# EAGLE library part XC7Z010CLG400 (library Xilinx)
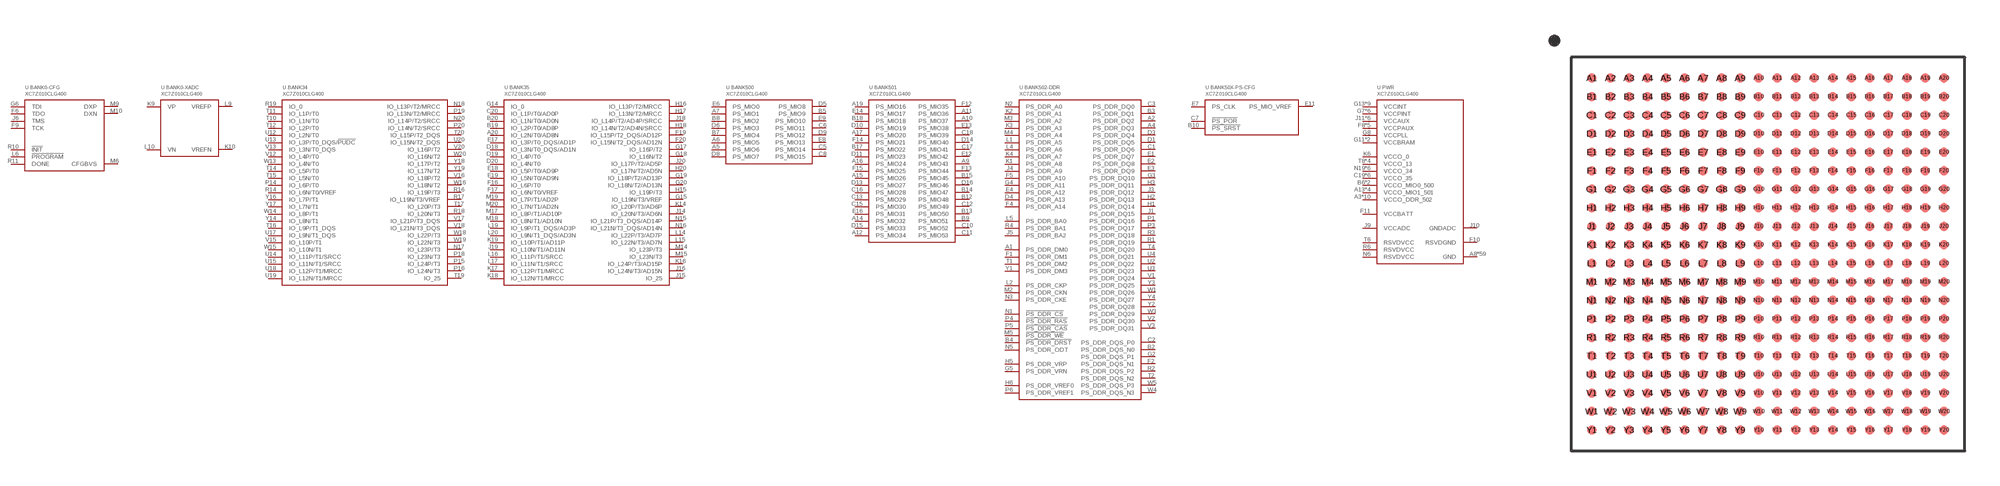
[diagram p0: symbol with the pads of BGA400; footprint BGA400]

Designator prefix U; gates .BANK0-CFG=XC7Z010CLG400-BANK0-CFG .BANK0-XADC=XC7Z010CLG400-BANK0-XADC .BANK34=XC7Z010CLG400-BANK34 .BANK35=XC7Z010CLG400-BANK35 .BANK500=XC7Z010CLG400-BANK500 .BANK501=XC7Z010CLG400-BANK501 .BANK502-DDR=XC7Z010CLG400-BANK502-DDR .BANK50X-PS-CFG=XC7Z010CLG400-BANK50X-PS-CFG .PWR=XC7Z010CLG400-PWR

## XC7Z010CLG400  [BGA400]
A1  .BANK502-DDR:PS_DDR_DM0
A2  .BANK502-DDR:PS_DDR_DQ2
A3  .PWR:VCCO_DDR_502
A4  .BANK502-DDR:PS_DDR_DQ3
A5  .BANK500:PS_MIO6
A6  .BANK500:PS_MIO5
A7  .BANK500:PS_MIO1
A8  .PWR:GND
A9  .BANK501:PS_MIO43
A10  .BANK501:PS_MIO37
A11  .BANK501:PS_MIO36
A12  .BANK501:PS_MIO34
A13  .PWR:VCCO_MIO1_501
A14  .BANK501:PS_MIO32
A15  .BANK501:PS_MIO26
A16  .BANK501:PS_MIO24
A17  .BANK501:PS_MIO20
A18  .PWR:GND
A19  .BANK501:PS_MIO16
A20  .BANK35:IO_L2N/T0/AD8N
B1  .PWR:GND
B2  .BANK502-DDR:PS_DDR_DQS_N0
B3  .BANK502-DDR:PS_DDR_DQ1
B4  .BANK502-DDR:!PS_DDR_DRST
B5  .BANK500:PS_MIO9
B6  .PWR:VCCO_MIO0_500
B7  .BANK500:PS_MIO4
B8  .BANK500:PS_MIO2
B9  .BANK501:PS_MIO51
B10  .BANK50X-PS-CFG:!PS_SRST
B11  .PWR:GND
B12  .BANK501:PS_MIO48
B13  .BANK501:PS_MIO50
B14  .BANK501:PS_MIO47
B15  .BANK501:PS_MIO45
B16  .PWR:VCCO_MIO1_501
B17  .BANK501:PS_MIO22
B18  .BANK501:PS_MIO18
B19  .BANK35:IO_L2P/T0/AD8P
B20  .BANK35:IO_L1N/T0/AD0N
C1  .BANK502-DDR:PS_DDR_DQ6
C2  .BANK502-DDR:PS_DDR_DQS_P0
C3  .BANK502-DDR:PS_DDR_DQ0
C4  .PWR:GND
C5  .BANK500:PS_MIO14
C6  .BANK500:PS_MIO11
C7  .BANK50X-PS-CFG:!PS_POR
C8  .BANK500:PS_MIO15
C9  .PWR:GND
C10  .BANK501:PS_MIO52
C11  .BANK501:PS_MIO53
C12  .BANK501:PS_MIO49
C13  .BANK501:PS_MIO29
C14  .PWR:GND
C15  .BANK501:PS_MIO30
C16  .BANK501:PS_MIO28
C17  .BANK501:PS_MIO41
C18  .BANK501:PS_MIO39
C19  .PWR:VCCO_35
C20  .BANK35:IO_L1P/T0/AD0P
D1  .BANK502-DDR:PS_DDR_DQ5
D2  .PWR:VCCO_DDR_502
D3  .BANK502-DDR:PS_DDR_DQ4
D4  .BANK502-DDR:PS_DDR_A13
D5  .BANK500:PS_MIO8
D6  .BANK500:PS_MIO3
D7  .PWR:VCCO_MIO0_500
D8  .BANK500:PS_MIO7
D9  .BANK500:PS_MIO12
D10  .BANK501:PS_MIO19
D11  .BANK501:PS_MIO23
D12  .PWR:VCCO_MIO1_501
D13  .BANK501:PS_MIO27
D14  .BANK501:PS_MIO40
D15  .BANK501:PS_MIO33
D16  .BANK501:PS_MIO46
D17  .PWR:GND
D18  .BANK35:IO_L3N/T0_DQS/AD1N
D19  .BANK35:IO_L4P/T0
D20  .BANK35:IO_L4N/T0
E1  .BANK502-DDR:PS_DDR_DQ7
E2  .BANK502-DDR:PS_DDR_DQ8
E3  .BANK502-DDR:PS_DDR_DQ9
E4  .BANK502-DDR:PS_DDR_A12
E5  .PWR:VCCO_DDR_502
E6  .BANK500:PS_MIO0
E7  .BANK50X-PS-CFG:PS_CLK
E8  .BANK500:PS_MIO13
E9  .BANK500:PS_MIO10
E10  .PWR:GND
E11  .BANK50X-PS-CFG:PS_MIO_VREF
E12  .BANK501:PS_MIO42
E13  .BANK501:PS_MIO38
E14  .BANK501:PS_MIO17
E15  .PWR:VCCO_MIO1_501
E16  .BANK501:PS_MIO31
E17  .BANK35:IO_L3P/T0_DQS/AD1P
E18  .BANK35:IO_L5P/T0/AD9P
E19  .BANK35:IO_L5N/T0/AD9N
E20  .PWR:GND
F1  .BANK502-DDR:PS_DDR_DM1
F2  .BANK502-DDR:PS_DDR_DQS_N1
F3  .PWR:GND
F4  .BANK502-DDR:PS_DDR_A14
F5  .BANK502-DDR:PS_DDR_A10
F6  .BANK0-CFG:TDO
F7  .PWR:GND
F8  .PWR:VCCPAUX
F9  .BANK0-CFG:TCK
F10  .PWR:RSVDGND
F11  .PWR:VCCBATT
F12  .BANK501:PS_MIO35
F13  .BANK501:PS_MIO44
F14  .BANK501:PS_MIO21
F15  .BANK501:PS_MIO25
F16  .BANK35:IO_L6P/T0
F17  .BANK35:IO_L6N/T0/VREF
F18  .PWR:VCCO_35
F19  .BANK35:IO_L15P/T2_DQS/AD12P
F20  .BANK35:IO_L15N/T2_DQS/AD12N
G1  .PWR:VCCO_DDR_502
G2  .BANK502-DDR:PS_DDR_DQS_P1
G3  .BANK502-DDR:PS_DDR_DQ10
G4  .BANK502-DDR:PS_DDR_A11
G5  .BANK502-DDR:PS_DDR_VRN
G6  .BANK0-CFG:TDI
G7  .PWR:VCCPINT
G8  .PWR:VCCPLL
G9  .PWR:VCCPAUX
G10  .PWR:GND
G11  .PWR:VCCBRAM
G12  .PWR:GND
G13  .PWR:VCCINT
G14  .BANK35:IO_0
G15  .BANK35:IO_L19N/T3/VREF
G16  .PWR:GND
G17  .BANK35:IO_L16P/T2
G18  .BANK35:IO_L16N/T2
G19  .BANK35:IO_L18P/T2/AD13P
G20  .BANK35:IO_L18N/T2/AD13N
H1  .BANK502-DDR:PS_DDR_DQ14
H2  .BANK502-DDR:PS_DDR_DQ13
H3  .BANK502-DDR:PS_DDR_DQ11
H4  .PWR:VCCO_DDR_502
H5  .BANK502-DDR:PS_DDR_VRP
H6  .BANK502-DDR:PS_DDR_VREF0
H7  .PWR:GND
H8  .PWR:VCCPAUX
H9  .PWR:GND
H10  .PWR:VCCBRAM
H11  .PWR:GND
H12  .PWR:VCCINT
H13  .PWR:GND
H14  .PWR:VCCO_35
H15  .BANK35:IO_L19P/T3
H16  .BANK35:IO_L13P/T2/MRCC
H17  .BANK35:IO_L13N/T2/MRCC
H18  .BANK35:IO_L14N/T2/AD4N/SRCC
H19  .PWR:GND
H20  .BANK35:IO_L17N/T2/AD5N
J1  .BANK502-DDR:PS_DDR_DQ15
J2  .PWR:GND
J3  .BANK502-DDR:PS_DDR_DQ12
J4  .BANK502-DDR:PS_DDR_A9
J5  .BANK502-DDR:PS_DDR_BA2
J6  .BANK0-CFG:TMS
J7  .PWR:VCCPINT
J8  .PWR:GND
J9  .PWR:VCCADC
J10  .PWR:GNDADC
J11  .PWR:VCCAUX
J12  .PWR:GND
J13  .PWR:VCCINT
J14  .BANK35:IO_L20N/T3/AD6N
J15  .BANK35:IO_25
J16  .BANK35:IO_L24N/T3/AD15N
J17  .PWR:VCCO_35
J18  .BANK35:IO_L14P/T2/AD4P/SRCC
J19  .BANK35:IO_L10N/T1/AD11N
J20  .BANK35:IO_L17P/T2/AD5P
K1  .BANK502-DDR:PS_DDR_A8
K2  .BANK502-DDR:PS_DDR_A1
K3  .BANK502-DDR:PS_DDR_A3
K4  .BANK502-DDR:PS_DDR_A7
K5  .PWR:GND
K6  .PWR:VCCO_0
K7  .PWR:GND
K8  .PWR:VCCPAUX
K9  .BANK0-XADC:VP
K10  .BANK0-XADC:VREFN
K11  .PWR:GND
K12  .PWR:VCCINT
K13  .PWR:GND
K14  .BANK35:IO_L20P/T3/AD6P
K15  .PWR:GND
K16  .BANK35:IO_L24P/T3/AD15P
K17  .BANK35:IO_L12P/T1/MRCC
K18  .BANK35:IO_L12N/T1/MRCC
K19  .BANK35:IO_L10P/T1/AD11P
K20  .PWR:VCCO_35
L1  .BANK502-DDR:PS_DDR_A5
L2  .BANK502-DDR:PS_DDR_CKP
L3  .PWR:VCCO_DDR_502
L4  .BANK502-DDR:PS_DDR_A6
L5  .BANK502-DDR:PS_DDR_BA0
L6  .BANK0-CFG:!PROGRAM
L7  .PWR:VCCPINT
L8  .PWR:GND
L9  .BANK0-XADC:VREFP
L10  .BANK0-XADC:VN
L11  .PWR:VCCAUX
L12  .PWR:GND
L13  .PWR:VCCINT
L14  .BANK35:IO_L22P/T3/AD7P
L15  .BANK35:IO_L22N/T3/AD7N
L16  .BANK35:IO_L11P/T1/SRCC
L17  .BANK35:IO_L11N/T1/SRCC
L18  .PWR:GND
L19  .BANK35:IO_L9P/T1_DQS/AD3P
L20  .BANK35:IO_L9N/T1_DQS/AD3N
M1  .PWR:GND
M2  .BANK502-DDR:PS_DDR_CKN
M3  .BANK502-DDR:PS_DDR_A2
M4  .BANK502-DDR:PS_DDR_A4
M5  .BANK502-DDR:!PS_DDR_WE
M6  .BANK0-CFG:CFGBVS
M7  .PWR:GND
M8  .PWR:VCCPAUX
M9  .BANK0-CFG:DXP
M10  .BANK0-CFG:DXN
M11  .PWR:GND
M12  .PWR:VCCINT
M13  .PWR:GND
M14  .BANK35:IO_L23P/T3
M15  .BANK35:IO_L23N/T3
M16  .PWR:VCCO_35
M17  .BANK35:IO_L8P/T1/AD10P
M18  .BANK35:IO_L8N/T1/AD10N
M19  .BANK35:IO_L7P/T1/AD2P
M20  .BANK35:IO_L7N/T1/AD2N
N1  .BANK502-DDR:!PS_DDR_CS
N2  .BANK502-DDR:PS_DDR_A0
N3  .BANK502-DDR:PS_DDR_CKE
N4  .PWR:GND
N5  .BANK502-DDR:PS_DDR_ODT
N6  .PWR:RSVDVCC
N7  .PWR:VCCPINT
N8  .PWR:GND
N9  .PWR:VCCAUX
N10  .PWR:GND
N11  .PWR:VCCAUX
N12  .PWR:GND
N13  .PWR:VCCINT
N14  .PWR:GND
N15  .BANK35:IO_L21P/T3_DQS/AD14P
N16  .BANK35:IO_L21N/T3_DQS/AD14N
N17  .BANK34:IO_L23P/T3
N18  .BANK34:IO_L13P/T2/MRCC
N19  .PWR:VCCO_34
N20  .BANK34:IO_L14P/T2/SRCC
P1  .BANK502-DDR:PS_DDR_DQ16
P2  .PWR:VCCO_DDR_502
P3  .BANK502-DDR:PS_DDR_DQ17
P4  .BANK502-DDR:!PS_DDR_RAS
P5  .BANK502-DDR:!PS_DDR_CAS
P6  .BANK502-DDR:PS_DDR_VREF1
P7  .PWR:GND
P8  .PWR:VCCPINT
P9  .PWR:GND
P10  .PWR:VCCAUX
P11  .PWR:GND
P12  .PWR:VCCINT
P13  .PWR:GND
P14  .BANK34:IO_L6P/T0
P15  .BANK34:IO_L24P/T3
P16  .BANK34:IO_L24N/T3
P17  .PWR:GND
P18  .BANK34:IO_L23N/T3
P19  .BANK34:IO_L13N/T2/MRCC
P20  .BANK34:IO_L14N/T2/SRCC
R1  .BANK502-DDR:PS_DDR_DQ19
R2  .BANK502-DDR:PS_DDR_DQS_P2
R3  .BANK502-DDR:PS_DDR_DQ18
R4  .BANK502-DDR:PS_DDR_BA1
R5  .PWR:VCCO_DDR_502
R6  .PWR:RSVDVCC
R7  .PWR:VCCPINT
R8  .PWR:GND
R9  .PWR:VCCAUX
R10  .BANK0-CFG:!INIT
R11  .BANK0-CFG:DONE
R12  .PWR:GND
R13  .PWR:VCCINT
R14  .BANK34:IO_L6N/T0/VREF
R15  .PWR:VCCO_34
R16  .BANK34:IO_L19P/T3
R17  .BANK34:IO_L19N/T3/VREF
R18  .BANK34:IO_L20N/T3
R19  .BANK34:IO_0
R20  .PWR:GND
T1  .BANK502-DDR:PS_DDR_DM2
T2  .BANK502-DDR:PS_DDR_DQS_N2
T3  .PWR:GND
T4  .BANK502-DDR:PS_DDR_DQ20
T6  .PWR:RSVDVCC
T7  .PWR:GND
T8  .PWR:VCCO_13
T10  .BANK34:IO_L1N/T0
T11  .BANK34:IO_L1P/T0
T12  .BANK34:IO_L2P/T0
T13  .PWR:GND
T14  .BANK34:IO_L5P/T0
T15  .BANK34:IO_L5N/T0
T16  .BANK34:IO_L9P/T1_DQS
T17  .BANK34:IO_L20P/T3
T18  .PWR:VCCO_34
T19  .BANK34:IO_25
T20  .BANK34:IO_L15P/T2_DQS
U1  .PWR:VCCO_DDR_502
U2  .BANK502-DDR:PS_DDR_DQ22
U3  .BANK502-DDR:PS_DDR_DQ23
U4  .BANK502-DDR:PS_DDR_DQ21
U6  .PWR:GND
U11  .PWR:VCCO_13
U12  .BANK34:IO_L2N/T0
U13  .BANK34:IO_L3P/T0_DQS/!PUDC!
U14  .BANK34:IO_L11P/T1/SRCC
U15  .BANK34:IO_L11N/T1/SRCC
U16  .PWR:GND
U17  .BANK34:IO_L9N/T1_DQS
U18  .BANK34:IO_L12P/T1/MRCC
U19  .BANK34:IO_L12N/T1/MRCC
U20  .BANK34:IO_L15N/T2_DQS
V1  .BANK502-DDR:PS_DDR_DQ24
V2  .BANK502-DDR:PS_DDR_DQ30
V3  .BANK502-DDR:PS_DDR_DQ31
V4  .PWR:VCCO_DDR_502
V9  .PWR:GND
V12  .BANK34:IO_L4P/T0
V13  .BANK34:IO_L3N/T0_DQS
V14  .PWR:VCCO_34
V15  .BANK34:IO_L10P/T1
V16  .BANK34:IO_L18P/T2
V17  .BANK34:IO_L21P/T3_DQS
V18  .BANK34:IO_L21N/T3_DQS
V19  .PWR:GND
V20  .BANK34:IO_L16P/T2
W1  .BANK502-DDR:PS_DDR_DQ26
W2  .PWR:GND
W3  .BANK502-DDR:PS_DDR_DQ29
W4  .BANK502-DDR:PS_DDR_DQS_N3
W5  .BANK502-DDR:PS_DDR_DQS_P3
W7  .PWR:VCCO_13
W12  .PWR:GND
W13  .BANK34:IO_L4N/T0
W14  .BANK34:IO_L8P/T1
W15  .BANK34:IO_L10N/T1
W16  .BANK34:IO_L18N/T2
W17  .PWR:VCCO_34
W18  .BANK34:IO_L22P/T3
W19  .BANK34:IO_L22N/T3
W20  .BANK34:IO_L16N/T2
Y1  .BANK502-DDR:PS_DDR_DM3
Y2  .BANK502-DDR:PS_DDR_DQ28
Y3  .BANK502-DDR:PS_DDR_DQ25
Y4  .BANK502-DDR:PS_DDR_DQ27
Y5  .PWR:GND
Y10  .PWR:VCCO_13
Y14  .BANK34:IO_L8N/T1
Y15  .PWR:GND
Y16  .BANK34:IO_L7P/T1
Y17  .BANK34:IO_L7N/T1
Y18  .BANK34:IO_L17P/T2
Y19  .BANK34:IO_L17N/T2
Y20  .PWR:VCCO_34

## Footprint BGA400 (pad centres in mm)
smd 0.4 x 0.4: A1 -7.6,7.6; A2 -6.8,7.6; A3 -6,7.6; A4 -5.2,7.6; A5 -4.4,7.6; A6 -3.6,7.6; A7 -2.8,7.6; A8 -2,7.6; A9 -1.2,7.6; A10 -0.4,7.6; A11 0.4,7.6; A12 1.2,7.6; A13 2,7.6; A14 2.8,7.6; A15 3.6,7.6; A16 4.4,7.6; A17 5.2,7.6; A18 6,7.6; A19 6.8,7.6; A20 7.6,7.6; B1 -7.6,6.8; B2 -6.8,6.8; B3 -6,6.8; B4 -5.2,6.8; B5 -4.4,6.8; B6 -3.6,6.8; B7 -2.8,6.8; B8 -2,6.8; B9 -1.2,6.8; B10 -0.4,6.8; B11 0.4,6.8; B12 1.2,6.8; B13 2,6.8; B14 2.8,6.8; B15 3.6,6.8; B16 4.4,6.8; B17 5.2,6.8; B18 6,6.8; B19 6.8,6.8; B20 7.6,6.8; C1 -7.6,6; C2 -6.8,6; C3 -6,6; C4 -5.2,6; C5 -4.4,6; C6 -3.6,6; C7 -2.8,6; C8 -2,6; C9 -1.2,6; C10 -0.4,6; C11 0.4,6; C12 1.2,6; C13 2,6; C14 2.8,6; C15 3.6,6; C16 4.4,6; C17 5.2,6; C18 6,6; C19 6.8,6; C20 7.6,6; D1 -7.6,5.2; D2 -6.8,5.2; D3 -6,5.2; D4 -5.2,5.2; D5 -4.4,5.2; D6 -3.6,5.2; D7 -2.8,5.2; D8 -2,5.2; D9 -1.2,5.2; D10 -0.4,5.2; D11 0.4,5.2; D12 1.2,5.2; D13 2,5.2; D14 2.8,5.2; D15 3.6,5.2; D16 4.4,5.2; D17 5.2,5.2; D18 6,5.2; D19 6.8,5.2; D20 7.6,5.2; E1 -7.6,4.4; E2 -6.8,4.4; E3 -6,4.4; E4 -5.2,4.4; E5 -4.4,4.4; E6 -3.6,4.4; E7 -2.8,4.4; E8 -2,4.4; E9 -1.2,4.4; E10 -0.4,4.4; E11 0.4,4.4; E12 1.2,4.4; E13 2,4.4; E14 2.8,4.4; E15 3.6,4.4; E16 4.4,4.4; E17 5.2,4.4; E18 6,4.4; E19 6.8,4.4; E20 7.6,4.4; F1 -7.6,3.6; F2 -6.8,3.6; F3 -6,3.6; F4 -5.2,3.6; F5 -4.4,3.6; F6 -3.6,3.6; F7 -2.8,3.6; F8 -2,3.6; F9 -1.2,3.6; F10 -0.4,3.6; F11 0.4,3.6; F12 1.2,3.6; F13 2,3.6; F14 2.8,3.6; F15 3.6,3.6; F16 4.4,3.6; F17 5.2,3.6; F18 6,3.6; F19 6.8,3.6; F20 7.6,3.6; G1 -7.6,2.8; G2 -6.8,2.8; G3 -6,2.8; G4 -5.2,2.8; G5 -4.4,2.8; G6 -3.6,2.8; G7 -2.8,2.8; G8 -2,2.8; G9 -1.2,2.8; G10 -0.4,2.8; G11 0.4,2.8; G12 1.2,2.8; G13 2,2.8; G14 2.8,2.8; G15 3.6,2.8; G16 4.4,2.8; G17 5.2,2.8; G18 6,2.8; G19 6.8,2.8; G20 7.6,2.8; H1 -7.6,2; H2 -6.8,2; H3 -6,2; H4 -5.2,2; H5 -4.4,2; H6 -3.6,2; H7 -2.8,2; H8 -2,2; H9 -1.2,2; H10 -0.4,2; H11 0.4,2; H12 1.2,2; H13 2,2; H14 2.8,2; H15 3.6,2; H16 4.4,2; H17 5.2,2; H18 6,2; H19 6.8,2; H20 7.6,2; J1 -7.6,1.2; J2 -6.8,1.2; J3 -6,1.2; J4 -5.2,1.2; J5 -4.4,1.2; J6 -3.6,1.2; J7 -2.8,1.2; J8 -2,1.2; J9 -1.2,1.2; J10 -0.4,1.2; J11 0.4,1.2; J12 1.2,1.2; J13 2,1.2; J14 2.8,1.2; J15 3.6,1.2; J16 4.4,1.2; J17 5.2,1.2; J18 6,1.2; J19 6.8,1.2; J20 7.6,1.2; K1 -7.6,0.4; K2 -6.8,0.4; K3 -6,0.4; K4 -5.2,0.4; K5 -4.4,0.4; K6 -3.6,0.4; K7 -2.8,0.4; K8 -2,0.4; K9 -1.2,0.4; K10 -0.4,0.4; K11 0.4,0.4; K12 1.2,0.4; K13 2,0.4; K14 2.8,0.4; K15 3.6,0.4; K16 4.4,0.4; K17 5.2,0.4; K18 6,0.4; K19 6.8,0.4; K20 7.6,0.4; L1 -7.6,-0.4; L2 -6.8,-0.4; L3 -6,-0.4; L4 -5.2,-0.4; L5 -4.4,-0.4; L6 -3.6,-0.4; L7 -2.8,-0.4; L8 -2,-0.4; L9 -1.2,-0.4; L10 -0.4,-0.4; L11 0.4,-0.4; L12 1.2,-0.4; L13 2,-0.4; L14 2.8,-0.4; L15 3.6,-0.4; L16 4.4,-0.4; L17 5.2,-0.4; L18 6,-0.4; L19 6.8,-0.4; L20 7.6,-0.4; M1 -7.6,-1.2; M2 -6.8,-1.2; M3 -6,-1.2; M4 -5.2,-1.2; M5 -4.4,-1.2; M6 -3.6,-1.2; M7 -2.8,-1.2; M8 -2,-1.2; M9 -1.2,-1.2; M10 -0.4,-1.2; M11 0.4,-1.2; M12 1.2,-1.2; M13 2,-1.2; M14 2.8,-1.2; M15 3.6,-1.2; M16 4.4,-1.2; M17 5.2,-1.2; M18 6,-1.2; M19 6.8,-1.2; M20 7.6,-1.2; N1 -7.6,-2; N2 -6.8,-2; N3 -6,-2; N4 -5.2,-2; N5 -4.4,-2; N6 -3.6,-2; N7 -2.8,-2; N8 -2,-2; N9 -1.2,-2; N10 -0.4,-2; N11 0.4,-2; N12 1.2,-2; N13 2,-2; N14 2.8,-2; N15 3.6,-2; N16 4.4,-2; N17 5.2,-2; N18 6,-2; N19 6.8,-2; N20 7.6,-2; P1 -7.6,-2.8; P2 -6.8,-2.8; P3 -6,-2.8; P4 -5.2,-2.8; P5 -4.4,-2.8; P6 -3.6,-2.8; P7 -2.8,-2.8; P8 -2,-2.8; P9 -1.2,-2.8; P10 -0.4,-2.8; P11 0.4,-2.8; P12 1.2,-2.8; P13 2,-2.8; P14 2.8,-2.8; P15 3.6,-2.8; P16 4.4,-2.8; P17 5.2,-2.8; P18 6,-2.8; P19 6.8,-2.8; P20 7.6,-2.8; R1 -7.6,-3.6; R2 -6.8,-3.6; R3 -6,-3.6; R4 -5.2,-3.6; R5 -4.4,-3.6; R6 -3.6,-3.6; R7 -2.8,-3.6; R8 -2,-3.6; R9 -1.2,-3.6; R10 -0.4,-3.6; R11 0.4,-3.6; R12 1.2,-3.6; R13 2,-3.6; R14 2.8,-3.6; R15 3.6,-3.6; R16 4.4,-3.6; R17 5.2,-3.6; R18 6,-3.6; R19 6.8,-3.6; R20 7.6,-3.6; T1 -7.6,-4.4; T2 -6.8,-4.4; T3 -6,-4.4; T4 -5.2,-4.4; T5 -4.4,-4.4; T6 -3.6,-4.4; T7 -2.8,-4.4; T8 -2,-4.4; T9 -1.2,-4.4; T10 -0.4,-4.4; T11 0.4,-4.4; T12 1.2,-4.4; T13 2,-4.4; T14 2.8,-4.4; T15 3.6,-4.4; T16 4.4,-4.4; T17 5.2,-4.4; T18 6,-4.4; T19 6.8,-4.4; T20 7.6,-4.4; U1 -7.6,-5.2; U2 -6.8,-5.2; U3 -6,-5.2; U4 -5.2,-5.2; U5 -4.4,-5.2; U6 -3.6,-5.2; U7 -2.8,-5.2; U8 -2,-5.2; U9 -1.2,-5.2; U10 -0.4,-5.2; U11 0.4,-5.2; U12 1.2,-5.2; U13 2,-5.2; U14 2.8,-5.2; U15 3.6,-5.2; U16 4.4,-5.2; U17 5.2,-5.2; U18 6,-5.2; U19 6.8,-5.2; U20 7.6,-5.2; V1 -7.6,-6; V2 -6.8,-6; V3 -6,-6; V4 -5.2,-6; V5 -4.4,-6; V6 -3.6,-6; V7 -2.8,-6; V8 -2,-6; V9 -1.2,-6; V10 -0.4,-6; V11 0.4,-6; V12 1.2,-6; V13 2,-6; V14 2.8,-6; V15 3.6,-6; V16 4.4,-6; V17 5.2,-6; V18 6,-6; V19 6.8,-6; V20 7.6,-6; W1 -7.6,-6.8; W2 -6.8,-6.8; W3 -6,-6.8; W4 -5.2,-6.8; W5 -4.4,-6.8; W6 -3.6,-6.8; W7 -2.8,-6.8; W8 -2,-6.8; W9 -1.2,-6.8; W10 -0.4,-6.8; W11 0.4,-6.8; W12 1.2,-6.8; W13 2,-6.8; W14 2.8,-6.8; W15 3.6,-6.8; W16 4.4,-6.8; W17 5.2,-6.8; W18 6,-6.8; W19 6.8,-6.8; W20 7.6,-6.8; Y1 -7.6,-7.6; Y2 -6.8,-7.6; Y3 -6,-7.6; Y4 -5.2,-7.6; Y5 -4.4,-7.6; Y6 -3.6,-7.6; Y7 -2.8,-7.6; Y8 -2,-7.6; Y9 -1.2,-7.6; Y10 -0.4,-7.6; Y11 0.4,-7.6; Y12 1.2,-7.6; Y13 2,-7.6; Y14 2.8,-7.6; Y15 3.6,-7.6; Y16 4.4,-7.6; Y17 5.2,-7.6; Y18 6,-7.6; Y19 6.8,-7.6; Y20 7.6,-7.6